# EAGLE library part ULN2803 (library omcTransistorLib)
DESCRIPTION: The UTC ULN2803 is high-voltage, high-current Darlington drivers comprised of eight NPN Darlington pairs. FEATURES: *Output current (single output) 500mA MAX. *High sustaining voltage output 50V MIN. *Output clamp diodes *Inputs compatible with various types of logic
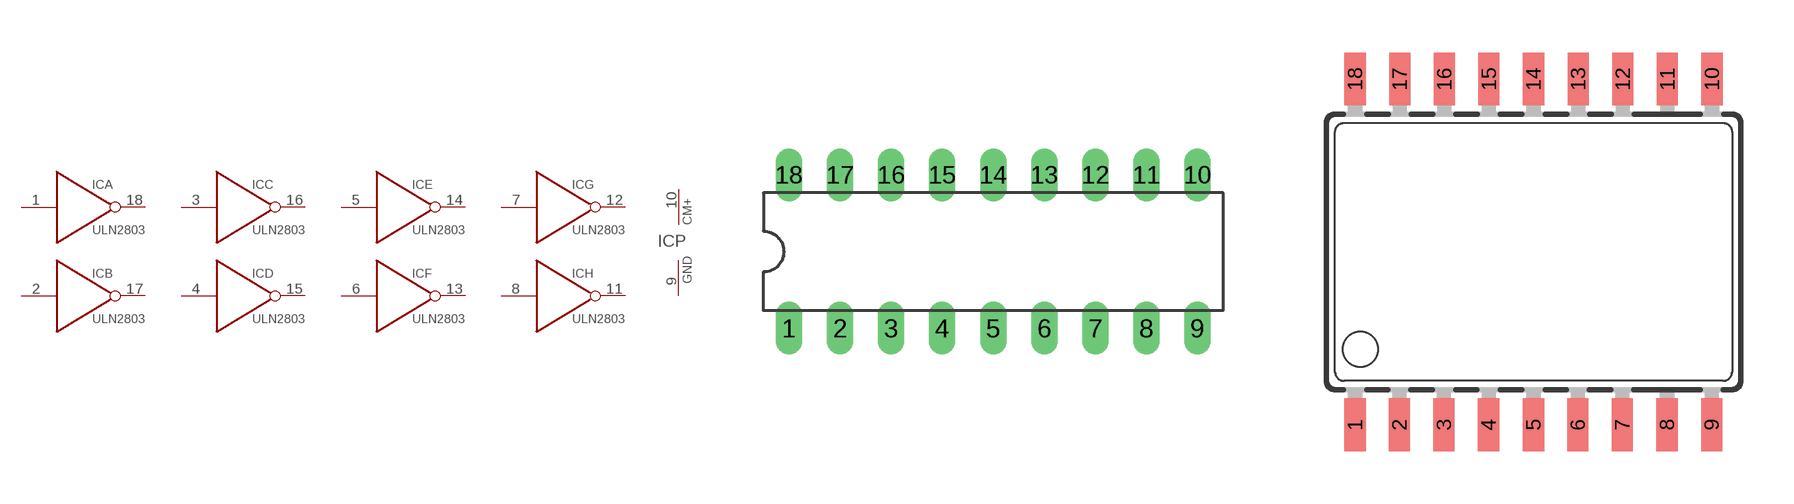
[diagram p0: symbol with the pads of DIL18; footprints DIL18, SOP18-300MIL]

Designator prefix IC; gates P=GND_WHEEL A=NEG B=NEG C=NEG D=NEG E=NEG F=NEG G=NEG H=NEG

## ULN2803A (VALUE: ULN2803A)  [DIL18]
1  A:IN  in
2  B:IN  in
3  C:IN  in
4  D:IN  in
5  E:IN  in
6  F:IN  in
7  G:IN  in
8  H:IN  in
9  P:GND  pwr
10  P:CM+  pwr
11  H:OUT  oc
12  G:OUT  oc
13  F:OUT  oc
14  E:OUT  oc
15  D:OUT  oc
16  C:OUT  oc
17  B:OUT  oc
18  A:OUT  oc

## ULN2803D  [SOP18-300MIL]
Pads as for DIL18

## Footprint DIL18 (pad centres in mm)
Dual In Line Package (DIL18)
drill 0.813 long: 1 -10.16,-3.81; 2 -7.62,-3.81; 3 -5.08,-3.81; 4 -2.54,-3.81; 5 0,-3.81; 6 2.54,-3.81; 7 5.08,-3.81; 8 7.62,-3.81; 9 10.16,-3.81; 10 10.16,3.81; 11 7.62,3.81; 12 5.08,3.81; 13 2.54,3.81; 14 0,3.81; 15 -2.54,3.81; 16 -5.08,3.81; 17 -7.62,3.81; 18 -10.16,3.81

## Footprint SOP18-300MIL (pad centres in mm)
Small Outline Package (SOP18-300MIL)
smd 0.6 x 1.5: 1 -5.08,-4.92; 2 -3.82,-4.92; 3 -2.55,-4.92; 4 -1.28,-4.92; 5 0,-4.92; 6 1.26,-4.92; 7 2.53,-4.92; 8 3.8,-4.92; 9 5.07,-4.92; 10 5.08,4.92; 11 3.81,4.92; 12 2.54,4.92; 13 1.27,4.92; 14 0,4.92; 15 -1.27,4.92; 16 -2.54,4.92; 17 -3.81,4.92; 18 -5.08,4.92